# Altium footprint library C0805.PcbLib: 1 footprints
Each footprint in its own frame and in the unit in brackets; x right, y up, seen from the top. Pads: shape width x height; smd on the part's side, far side on the other; paste and mask are expansions set on the pad; w line width, h text height; cw(c..) or ccw(c..) is an arc to the next point about the centre after c.
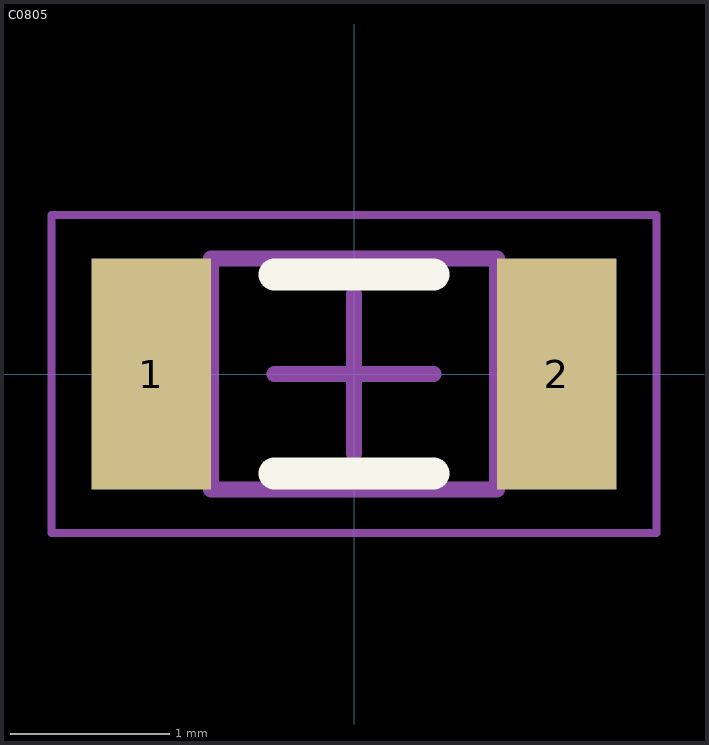
[diagram p0: the footprint, top view; thin cyan lines are the x and y axes]

## C0805 [mm]
height 1.45
pads (2):
  rect 0.75x1.45 smd: 1(-1.275,0) 2(1.275,0)
Top Overlay:
  lines w0.2: -0.5,-0.625 0.5,-0.625 ; -0.5,0.625 0.5,0.625
Mechanical 1:
  lines w0.1: -0.9,-0.725 0.9,-0.725 0.9,0.725 -0.9,0.725 -0.9,-0.725
Mechanical 2:
  lines w0.05: -1.9,-1 1.9,-1 1.9,1 -1.9,1 -1.9,-1
  lines w0.1: -0.5,0 0.5,0 ; 0,-0.5 0,0.5
3D body "C0805.step": height 1.45, standoff 0, extent -0.9,-0.725 0.9,0.725